# Altium schematic symbol library HotPlate_v1.0.SCHLIB: 31 symbols
Pins are listed as number, name and electrical type; pins without a type are passive.

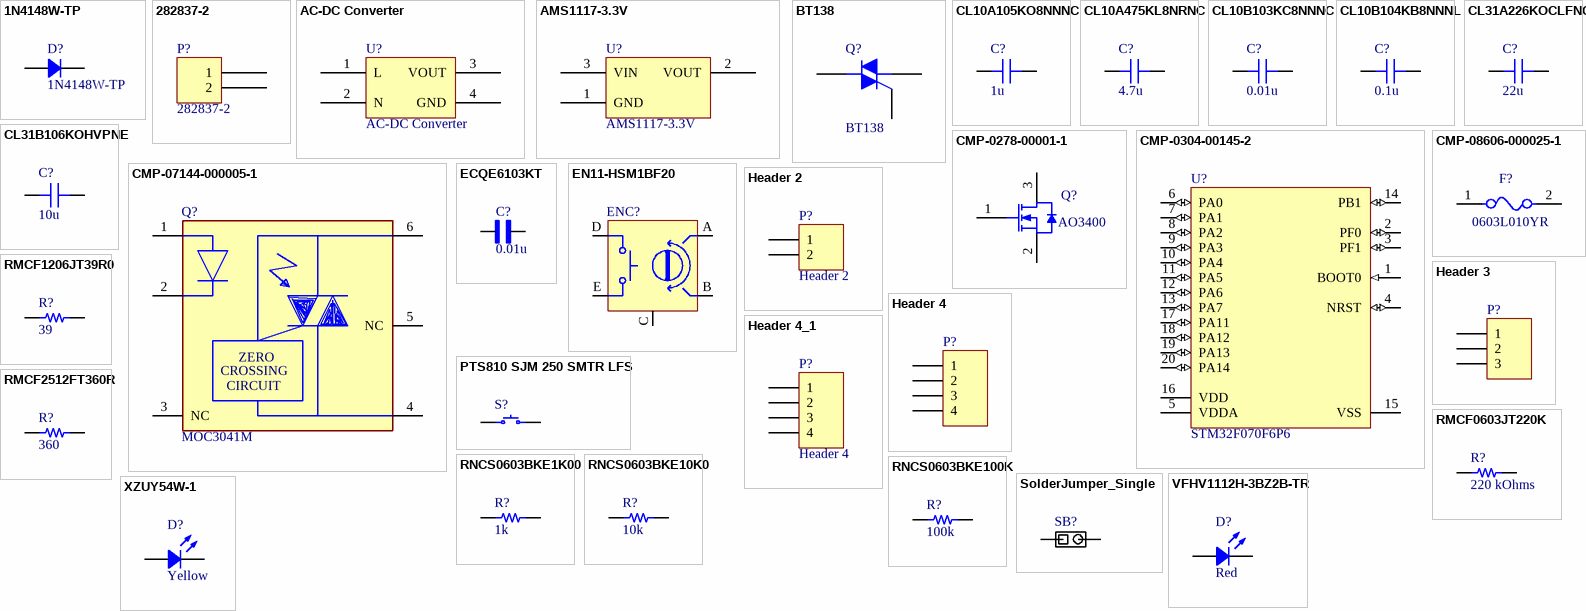
[diagram p0: symbols 1N4148W-TP to XZUY54W-1]

## 1N4148W-TP
designator D?
DIODE GEN PURP 100V 150MA SOD123; Manufacturer: Micro Commercial Co; Capacitance @ Vr, F: 2pF @ 0V, 1MHz; Current - Reverse Leakage @ Vr: 1 µA @ 75 V; Diode Type: Standard; Reverse Recovery Time (trr): 4 ns; Speed: Small Signal =< 200mA (Io), Any Speed; Voltage - Forward (Vf) (Max) @ If: 1.25 V @ 150 mA; Part Number: 1N4148W-TP; ComponentLink1Description: Datasheet; ComponentLink1URL: https://www.mccsemi.com/pdf/Products/1N4148W(SOD123).pdf; ComponentLink2Description: DigiKey Link; ComponentLink2URL: https://www.digikey.com/en/products/detail/micro-commercial-co/1N4148W-TP/717196; Current - Average Rectified (Io): 150mA; LastUpdated: 6/3/2024 7:54:46 PM; Lifecycle Status: Active; Minimum Order: 1; Mounting Type: Surface Mount; Operating Temperature - Junction: -65°C ~ 150°C; Package / Case: SOD-123; Packaging: TapeAndReel; PartId: 999; Part Status: Active; Price: 0.01; Series: -; Supplier 1: DigiKey; Supplier Part Number 1: 1N4148WTPMSCT-ND; Supplier Device Package: SOD-123; Voltage - DC Reverse (Vr) (Max): 100 V
footprint SOD-123
pins: 1, 2

## 282837-2
designator P?
TERM BLK 2P SIDE ENT 5.08MM PCB; Manufacturer: TE Connectivity AMP Connectors; Current: 13.5 A; Mating Orientation: Horizontal with Board; Number of Levels: 1; Pitch: 0.200" (5.08mm); Positions Per Level: 2; Voltage: 300 V; Wire Gauge: 16-28 AWG; Wire Termination: Screw - Rising Cage Clamp; Part Number: 282837-2; Color: Green; ComponentLink1Description: Datasheet; ComponentLink1URL: https://www.te.com/commerce/DocumentDelivery/DDEController?Action=srchrtrv&DocNm=282837&DocType=Customer+Drawing&DocLang=English; ComponentLink2Description: DigiKey Link; ComponentLink2URL: https://www.digikey.com/en/products/detail/te-connectivity-amp-connectors/282837-2/2187973; Features: Interlocking (Side); LastUpdated: 6/21/2022 3:00:23 PM; Lifecycle Status: Active; Minimum Order: 1; Mounting Type: Through Hole; Packaging: Tray; Part Status: Active; Price: 0.31; Series: Buchanan; Supplier 1: DigiKey; Supplier Part Number 1: A113320-ND
footprint TE 282837-2
pins: 1, 2

## AC-DC Converter
designator U?
VOUT: +5V; Max current: 700mA; ComponentLink1Description: Shopee; ComponentLink1URL: https://shopee.vn/Meishao-AC-sang-DC-5V-700mA-12V-300mA-3.5W-C%C3%B4ng-t%E1%BA%AFc-c%C3%A1ch-ly-B%E1%BB%99-ngu%E1%BB%93n-Mini-Buck-B%E1%BB%99-chuy%E1%BB%83n-%C4%91%E1%BB%95i-b%C6%B0%E1%BB%9Bc-xu%E1%BB%91ng-M%C3%B4-%C4%91un-AC-220V-sang-DC-5V-12V-%C4%90%E1%BA%B9p-i.1032539109.28704742020?xptdk=a6663772-2921-4425-8d30-5195574a3cb2
footprint AC-DC Converter
pins: 1 L, 2 N, 3 VOUT, 4 GND

## AMS1117-3.3V
designator U?
IC LDO REGULATOR 3.3V 1A SOT223; ComponentLink1Description: Datasheet; ComponentLink1URL: http://ams-semitech.com/attachments/File/AMS1117_20120314.pdf; Output voltage: 3.3V; Part Number: AMS1117-3.3V
footprint SOT-223
pins: 1 GND, 2 VOUT, 3 VIN

## BT138
designator Q?
Silicon Bidirectional Triode Thyristor; ASiD Part Number: BT138-AS
footprint My_TO220
footprint MY_TO220V_heatsink
pins: 1 M1, 2 M2, 3 G

## CL10A105KO8NNNC
designator C?, comment 1u
CAP CER 1UF 16V X5R 0603; Part Number: CL10A105KO8NNNC; manufacturer: Samsung Electro-Mechanics; Value: 1 µF; Tolerance: ±10%; Applications: General Purpose; Capacitance: 1 µF; componentlink1description: Datasheet; componentlink1url: http://www.samsungsem.com/kr/support/product-search/mlcc/CL10A105KO8NNNC.jsp; componentlink2description: DigiKey Link; componentlink2url: https://www.digikey.com/en/products/detail/samsung-electro-mechanics/CL10A105KO8NNNC/3886692; Device Package: 0603 (1608 Metric); lastupdated: 2/9/2024 8:10:26 PM; Lifecycle Status: Active; Minimum Order: 1; Mounting Type: Surface Mount, MLCC; Operating Temperature: -55°C ~ 85°C; Package / Case: 0603 (1608 Metric); packaging: TapeAndReel; partid: 5514; Part Status: Active; price: 0.01; series: CL; Size / Dimension: 0.063" L x 0.031" W (1.60mm x 0.80mm); Supplier 1: DigiKey; Supplier Part Number 1: 1276-1034-1-ND; Temperature Coefficient: X5R; Thickness (Max): 0.035" (0.90mm); Voltage - Rated: 16V
footprint CAP 0603_1608
pins: 1, 2

## CL10A475KL8NRNC
designator C?, comment 4.7u
CAP CER 4.7UF 35V X5R 0603; Part Number: CL10A475KL8NRNC; manufacturer: Samsung Electro-Mechanics; Value: 4.7 µF; Tolerance: ±10%; Applications: General Purpose; Capacitance: 4.7 µF; componentlink1description: Datasheet; componentlink1url: http://www.samsungsem.com/kr/support/product-search/mlcc/CL10A475KL8NRNC.jsp; componentlink2description: DigiKey Link; componentlink2url: https://www.digikey.com/en/products/detail/samsung-electro-mechanics/CL10A475KL8NRNC/5961278; Device Package: 0603 (1608 Metric); lastupdated: 2/9/2024 8:10:30 PM; Lifecycle Status: Active; Minimum Order: 1; Mounting Type: Surface Mount, MLCC; Operating Temperature: -55°C ~ 85°C; Package / Case: 0603 (1608 Metric); packaging: TapeAndReel; partid: 2652; Part Status: Active; price: 0.08; series: CL; Size / Dimension: 0.063" L x 0.031" W (1.60mm x 0.80mm); Supplier 1: DigiKey; Supplier Part Number 1: 1276-6794-1-ND; Temperature Coefficient: X5R; Thickness (Max): 0.035" (0.90mm); Voltage - Rated: 35V
footprint CAP 0603_1608
pins: 1, 2

## CL10B103KC8NNNC
designator C?, comment 0.01u
CAP CER 10000PF 100V X7R 0603; Part Number: CL10B103KC8NNNC; manufacturer: Samsung Electro-Mechanics; Tolerance: ±10%; Value: 10000 pF; Applications: General Purpose; Capacitance: 10000 pF; componentlink1description: Datasheet; componentlink1url: http://www.samsungsem.com/kr/support/product-search/mlcc/CL10B103KC8NNNC.jsp; componentlink2description: DigiKey Link; componentlink2url: https://www.digikey.com/en/products/detail/samsung-electro-mechanics/CL10B103KC8NNNC/3886854; Device Package: 0603 (1608 Metric); lastupdated: 2/9/2024 8:10:26 PM; Lifecycle Status: Active; Minimum Order: 1; Mounting Type: Surface Mount, MLCC; Operating Temperature: -55°C ~ 125°C; Package / Case: 0603 (1608 Metric); packaging: TapeAndReel; partid: 5732; Part Status: Active; price: 0.01; series: CL; Size / Dimension: 0.063" L x 0.031" W (1.60mm x 0.80mm); Supplier 1: DigiKey; Supplier Part Number 1: 1276-1196-1-ND; Temperature Coefficient: X7R; Thickness (Max): 0.035" (0.90mm); Voltage - Rated: 100V
footprint CAP 0603_1608
pins: 1, 2

## CL10B104KB8NNNL
designator C?, comment 0.1u
CAP CER 0.1UF 50V X7R 0603; Part Number: CL10B104KB8NNNL; manufacturer: Samsung Electro-Mechanics; Value: 0.1 µF; Tolerance: ±10%; Applications: General Purpose; Capacitance: 0.1 µF; componentlink1description: Datasheet; componentlink1url: http://www.samsungsem.com/kr/support/product-search/mlcc/CL10B104KB8NNNL.jsp; componentlink2description: DigiKey Link; componentlink2url: https://www.digikey.com/en/products/detail/samsung-electro-mechanics/CL10B104KB8NNNL/3894274; Device Package: 0603 (1608 Metric); lastupdated: 2/9/2024 8:10:29 PM; Lifecycle Status: Active; Minimum Order: 1; Mounting Type: Surface Mount, MLCC; Operating Temperature: -55°C ~ 125°C; Package / Case: 0603 (1608 Metric); packaging: TapeAndReel; partid: 3517; Part Status: Active; price: 0.01; series: CL; Size / Dimension: 0.063" L x 0.031" W (1.60mm x 0.80mm); Supplier 1: DigiKey; Supplier Part Number 1: 1276-CL10B104KB8NNNLCT-ND; Temperature Coefficient: X7R; Thickness (Max): 0.035" (0.90mm); Voltage - Rated: 50V
footprint CAP 0603_1608
pins: 1, 2

## CL31A226KOCLFNC
designator C?, comment 22u
CAP CER 22UF 16V X5R 1206; Part Number: CL31A226KOCLFNC; manufacturer: Samsung Electro-Mechanics; Value: 22 µF; Tolerance: ±10%; Applications: General Purpose; Capacitance: 22 µF; componentlink1description: Datasheet; componentlink1url: http://www.samsungsem.com/kr/support/product-search/mlcc/CL31A226KOCLFNC.jsp; componentlink2description: DigiKey Link; componentlink2url: https://www.digikey.com/en/products/detail/samsung-electro-mechanics/CL31A226KOCLFNC/3888383; Device Package: 1206 (3216 Metric); lastupdated: 6/4/2024 7:10:41 PM; Lifecycle Status: Active; Minimum Order: 1; Mounting Type: Surface Mount, MLCC; Operating Temperature: -55°C ~ 85°C; Package / Case: 1206 (3216 Metric); packaging: TapeAndReel; partid: 18940; Part Status: Active; price: 0.09; series: CL; Size / Dimension: 0.126" L x 0.063" W (3.20mm x 1.60mm); Supplier 1: DigiKey; Supplier Part Number 1: 1276-2725-1-ND; Temperature Coefficient: X5R; Thickness (Max): 0.037" (0.95mm); Voltage - Rated: 16V
footprint CAP 1206_3216 - 0.8MM
pins: 1, 2

## CL31B106KOHVPNE
designator C?, comment 10u
CAP CER 10UF 16V X7R 1206; Part Number: CL31B106KOHVPNE; manufacturer: Samsung Electro-Mechanics; Value: 10 µF; Tolerance: ±10%; Applications: Automotive; Capacitance: 10 µF; componentlink1description: Datasheet; componentlink1url: http://www.samsungsem.com/kr/support/product-search/mlcc/CL31B106KOHVPNE.jsp; componentlink2description: DigiKey Link; componentlink2url: https://www.digikey.com/en/products/detail/samsung-electro-mechanics/CL31B106KOHVPNE/5961281; Device Package: 1206 (3216 Metric); lastupdated: 6/4/2024 7:10:40 PM; Lifecycle Status: Active; Minimum Order: 1; Mounting Type: Surface Mount, MLCC; Operating Temperature: -55°C ~ 125°C; Package / Case: 1206 (3216 Metric); packaging: TapeAndReel; partid: 20135; Part Status: Active; price: 0.06; Ratings: AEC-Q200; series: CL; Size / Dimension: 0.126" L x 0.063" W (3.20mm x 1.60mm); Supplier 1: DigiKey; Supplier Part Number 1: 1276-6797-1-ND; Temperature Coefficient: X7R; Thickness (Max): 0.071" (1.80mm); Voltage - Rated: 16V
footprint CAP 1206_3216 - 0.8MM
pins: 1, 2

## CMP-0278-00001-1
designator Q?, comment AO3400
N-channel Enhancement Mode Field-Effect Transistor; 5.8A/30V; Manufacturer: Alpha and Omega; Manufacturer: Alpha & Omega Semiconductor; Channel Type: N; Drain-Source Voltage Limit: 30 V; Junction Temperature: -55 to 150 degC; Gate-Source Voltage Limit: +/-12 V; PackageDescription: 3-Pin SOT23, 3.016 x 2.8 mm Body, 0.95 mm Pitch; ComponentLink2Description: Datasheet; DatasheetVersion: Rev.8, 12/2011; ComponentLink3URL: http://www.aosmd.com/res/packaging_information/SOT-23.pdf; Storage Temperature: -55 to 150 degC; ComponentLink3Description: Package Specification; PackageReference: SOT23; ComponentLink1Description: Manufacturer URL; Mounting Technology: Surface Mount; ComponentLink1URL: http://www.aosmd.com/; PartNumber: AO3400; ComponentLink2URL: http://www.aosmd.com/res/data_sheets/AO3400.pdf; Manufacturer Part Number: AO3400
footprint AO-SOT23-3_V (SOT23, 3-Leads, Body 3.016x2.8mm, Pitch 0.95mm)
pins: 1 G, 2 S, 3 D

## CMP-0304-00145-2
designator U?, comment STM32F070F6P6
ARM Cortex-M0 32-bit MCU, 32 KB Flash, 6 KB Internal RAM, 15 I/Os, 20-Pin TSSOP, -40 to 85 degC, Tray; Manufacturer: STMicroelectronics; FLASH Size (Prog) (kB): 32; Internal RAM Size (kB): 6; Operating Frequency(F) (Processor speed) (MHz): 48; Supply Voltage(Vcc) min (V): 2.4; I/Os (High Current): 15; ComponentLink2URL: http://www.st.com/st-web-ui/static/active/en/resource/technical/document/datasheet/DM00141386.pdf; ComponentLink2Description: Datasheet; Packing: Tray; DatasheetVersion: Rev. 3; PartNumber: STM32F070F6P6; Core: ARM Cortex-M0; Package Reference: TSSOP20; Package Description: 20-Pin Thin Shrink Small Outline Package, Body 6.5 x 4.4 mm, Pitch 0.65 mm; ComponentLink1Description: Manufacturer URL; ComponentLink1URL: http://www.st.com/; Mounting Technology: Surface Mount; Manufacturer Part Number: STM32F070F6P6
footprint STM-TSSOP20_M (SOP, 20-Leads, Body 6.6x4.5mm, Pitch 0.65mm, IPC Low Density)
footprint STM-TSSOP20_N (SOP, 20-Leads, Body 6.6x4.5mm, Pitch 0.65mm, IPC Medium Density)
footprint STM-TSSOP20_L (SOP, 20-Leads, Body 6.6x4.5mm, Pitch 0.65mm, IPC High Density)
pins: 1 BOOT0 (in) "Boot memory selection", 2 PF0 (io) "PF0/I2C1_SDA/OSC_IN", 3 PF1 (io) "PF1/I2C1_SCL/OSC_OUT", 4 NRST (io) "Device reset input/internal reset output(active low)", 5 VDDA (power) "Analog power supply", 6 PA0 (io) "PA0/USART2_CTS,USART4_TX/RTC_ TAMP2,WKUP1,ADC_IN0", 7 PA1 (io) "PA1/USART2_RTS,USART4_RX,EVENTOUT/ADC_IN1", 8 PA2 (io) "PA2/USART2_TX/ADC_IN2", 9 PA3 (io) "PA3/USART2_RX/ADC_IN3", 10 PA4 (io) "PA4/SPI1_NSS,TIM14_CH1,USART2_CK,USB_NOE/ADC_IN4", 11 PA5 (io) "PA5/SPI1_SCK/ADC_IN5", 12 PA6 (io) "PA6/SPI1_MISO,TIM3_CH1,TIM1_BKIN,TIM16_CH1,EVENTOUT,USART3_CTS/ADC_IN6", 13 PA7 (io) "PA7/SPI1_MOSI,TIM3_CH2,TIM14_CH1,TIM1_CH1N,TIM17_CH1,EVENTOUT/ADC_IN7", 14 PB1 (io) "PB1/TIM3_CH4,TIM14_CH1,TIM1_CH3N/ADC_IN9", 15 VSS (power) "Ground", 16 VDD (power) "Digital power supply", 17 PA11 (io) "PA11/USART1_CTS,TIM1_CH4,EVENTOUT/USB_DM", 18 PA12 (io) "PA12/USART1_RTS,TIM1_ETR, EVENTOUT/USB_DP", 19 PA13 (io) "PA13/IR_OUT,SWDIO,USB_NOE", 20 PA14 (io) "PA14/USART2_TX,SWCLK"

## CMP-07144-000005-1
designator Q?, comment MOC3041M
OPTOISOLATOR 4.17KV TRIAC 6DIP; Manufacturer: ON Semiconductor; Manufacturer: ON Semiconductor / Fairchild; Forward Voltage: 1.25V; Power Dissipation: 250mW; Forward Current: 30mA; Reverse Voltage: 6V; Max Junction Temp: +100°C; Isolation Voltage: 4170Vrms; Standoff Height: 0.38mm; Octopart: https://octopart.com/moc3041m-on+semiconductor-84330395; Temperature Range Low: -40°C; Category: Trans; Package: 646BX; Height: 5.08mm; Manufacturer Part Number: MOC3041M; ComponentLink2Description: Datasheet; Device Class L2: Optocouplers; Device Class L1: Optoelectronics; Device Class L3: unset; Automotive: No; RoHS: TRUE; Mouser Description: Optocoupler Triac AC Output 1 Channel 400VDRM 6-Pin Plastic Dip White Bulk; Temperature: -40°C to +85°C; Lead Free: Yes; ComponentLink2URL: https://www.onsemi.com/pub/Collateral/MOC3043M-D.pdf; Digikey Description: OPTOISOLATOR 4.17KV TRIAC 6DIP; Temperature Range High: +85°C; Footprint Url: https://www.onsemi.com/pub/Collateral/646BX.PDF
footprint FP-646BX-MFG
pins: 1 A, 2 C, 3 NC, 4 1 MAIN TERM., 5 NC, 6 2 MAIN TERM.
text: ZERO; CROSSING; CIRCUIT

## CMP-08606-000025-1
designator F?, comment 0603L010YR
PTC RESET FUSE 15V 100MA 0603; Manufacturer: Littelfuse Inc; Manufacturer: Littelfuse; Value: 0.9-6Ω; Trip Time: 1s; Current Rating: 40A; Trip Current: 0.3A; Hold Current: 0.1A; Octopart: https://octopart.com/0603l010yr-littelfuse-8316166; ComponentLink2URL: https://www.littelfuse.com/~/media/electronics/datasheets/resettable_ptcs/littelfuse_ptc_0603l_datasheet.pdf.pdf; Package: 0603L; Category: Fuse; Mouser Description: Resettable Fuses - PPTC PTC 15V 0603 .100A POLY SURF MOUNT; Automotive: No; Resistance: 0.9-6Ω; Device Class L3: unset; Digikey Description: PTC RESET FUSE 15V 100MA 0603; Lead Free: Yes; Temperature: -40°C to +85°C; Ambient Temperature Range High: +85°C; ComponentLink2Description: Datasheet; RoHS: TRUE; Height: 0.75mm; Temperature Range Low: -40°C; Manufacturer Part Number: 0603L010YR; Device Class L2: PTC Resettable Fuses; Device Class L1: Circuit Protection; Temperature Range High: +85°C; Ambient Temperature Range Low: -40°C; Voltage Rating: 15V
footprint FP-0603L-MFG
pins: 1, 2

## ECQE6103KT
designator C?, comment 0.01u
ECQE6103KT; MF: {'manufacturer': u'Panasonic'}; Package: None; Price: None; Value: *; MP: ECQE6103KT; Availability: Unavailable
footprint CAPRR1000W60L1250T450H750
pins: 1, 2

## EN11-HSM1BF20
designator ENC?  (value not drawn)
Rotary Encoder with Switch 20 Detents 7mm Bushing 20mm Threaded Shaft Vertical; Manufacturer: TT Electronics; Manufacturer Part Number: EN11-HSM1BF20; Distributor Link: https://www.mouser.de/ProductDetail/BI-Technologies-TT-Electronics/EN11-HSM1BF20?qs=%252BUYXD5bnyXp4Uf1MU7v3zw%3D%3D
footprint EN11-HSM
pins: A (io), B (io), C GND (power), D, E

## Header 2
designator P?
Header, 2-Pin; LatestRevisionDate: 17-Jul-2002; LatestRevisionNote: Re-released for DXP Platform.; Publisher: Altium Limited
footprint HDR1X2 (Connector; Header; 2 Position)
signal-integrity model Connector
pins: 1, 2

## Header 3
designator P?  (value not drawn)
Header, 3-Pin; ASiD Part Number: Header 3-AS
footprint My_1X03
signal-integrity model Connector
footprint My_CN3
footprint MY_MSTBA3
footprint MY_6410-03
footprint MY_7395-03
footprint MY_FE03
footprint MY_FE03W
footprint MY_MA03-1W
pins: 1, 2, 3

## Header 4
designator P?  (value not drawn)
Header, 4-Pin; ASiD Part Number: Header 4-AS
footprint My_1X04
signal-integrity model Connector
footprint MY_MSTBA4
footprint MY_FPC4_1mm
footprint MY_6410-04
footprint MY_7395-04
footprint MY_FE04
footprint MY_FE04W
footprint MY_MA04-1W
pins: 1, 2, 3, 4

## Header 4_1
designator P?, comment Header 4
Header, 4-Pin; LatestRevisionDate: 17-Jul-2002; LatestRevisionNote: Re-released for DXP Platform.; Publisher: Altium Limited
footprint HDR1X4 (Connector; Header; 4 Position)
signal-integrity model Connector
pins: 1, 2, 3, 4

## PTS810 SJM 250 SMTR LFS
designator S?  (value not drawn)
SWITCH TACTILE SPST-NO 0.05A 16V; Manufacturer: C&K; Actuator Height off PCB, Vertical: 2.50mm; Actuator Orientation: Top Actuated; Actuator Type: Oval Button; Contact Rating @ Voltage: 0.05A @ 16VDC; Illumination: Non-Illuminated; Operating Force: 160gf; Outline: 4.20mm x 3.20mm; Switch Function: Off-Mom; Part Number: PTS810 SJM 250 SMTR LFS; Circuit: SPST-NO; ComponentLink1Description: Datasheet; ComponentLink1URL: https://dznh3ojzb2azq.cloudfront.net/products/Tactile/PTS810/documents/datasheet.pdf; ComponentLink2Description: DigiKey Link; ComponentLink2URL: http://digikey.com/product-detail/en/c-k/PTS810-SJM-250-SMTR-LFS/CKN10502CT-ND/4176673; LastUpdated: 4/9/2020 10:00:13 AM; Lifecycle Status: Active; Minimum Order: 1; Mounting Type: Surface Mount; Operating Temperature: -40°C ~ 85°C; Packaging: TapeAndReel; Part Status: Active; Price: 0.16; Series: PTS810; Supplier 1: DigiKey; Supplier Part Number 1: CKN10502CT-ND; Termination Style: J Lead
footprint C&K PTS810
pins: 1, 2, 3, 4

## RMCF0603JT220K
designator R?, comment 220 kOhms
RES 220K OHM 5% 1/10W 0603; Part Number: RMCF0603JT220K; Manufacturer: Stackpole Electronics Inc; Power (Watts): 0.1W, 1/10W; Temperature Coefficient: ±200ppm/°C; Value: 220 kOhms; ComponentLink1Description: Datasheet; ComponentLink1URL: https://www.seielect.com/catalog/sei-rmcf_rmcp.pdf; ComponentLink2Description: DigiKey Link; ComponentLink2URL: https://www.digikey.com/en/products/detail/stackpole-electronics-inc/RMCF0603JT220K/1758071; Composition: Thick Film; Device Package: 0603 (1608 Metric); Features: Automotive AEC-Q200; Height - Seated (Max): 0.022" (0.55mm); LastUpdated: 2/9/2024 8:43:33 PM; Lifecycle Status: Active; Minimum Order: 1; Number of Terminations: 2; Operating Temperature: -55°C ~ 155°C; Package / Case: 0603 (1608 Metric); Packaging: CutTape; PartId: 5861; Part Status: Active; Price: 0.01; Ratings: AEC-Q200; Resistance: 220 kOhms; Series: RMCF; Size / Dimension: 0.061" L x 0.031" W (1.55mm x 0.80mm); Supplier 1: DigiKey; Supplier Part Number 1: RMCF0603JT220KCT-ND; Supplier Device Package: 0603; Tolerance: ±5%
footprint RES 0603_1608
pins: 1, 2

## RMCF1206JT39R0
designator R?, comment 39
RES 39 OHM 5% 1/4W 1206; Part Number: RMCF1206JT39R0; Manufacturer: Stackpole Electronics Inc; Power (Watts): 0.25W, 1/4W; Resistance: 39 Ohms; Temperature Coefficient: ±200ppm/°C; Value: 39 Ohms; ComponentLink1Description: Datasheet; ComponentLink1URL: https://www.seielect.com/catalog/sei-rmcf_rmcp.pdf; ComponentLink2Description: DigiKey Link; ComponentLink2URL: https://www.digikey.com/en/products/detail/stackpole-electronics-inc/RMCF1206JT39R0/1753828; Composition: Thick Film; Device Package: 1206 (3216 Metric); Features: Automotive AEC-Q200; Height - Seated (Max): 0.028" (0.70mm); LastUpdated: 2/9/2024 8:54:36 PM; Lifecycle Status: Active; Minimum Order: 1; Number of Terminations: 2; Operating Temperature: -55°C ~ 155°C; Package / Case: 1206 (3216 Metric); Packaging: CutTape; PartId: 28850; Part Status: Active; Price: 0.01; Ratings: AEC-Q200; Series: RMCF; Size / Dimension: 0.126" L x 0.063" W (3.20mm x 1.60mm); Supplier 1: DigiKey; Supplier Part Number 1: RMCF1206JT39R0CT-ND; Supplier Device Package: 1206; Tolerance: ±5%
footprint RES 1206_3216
pins: 1, 2

## RMCF2512FT360R
designator R?, comment 360
RES 360 OHM 1% 1W 2512; Part Number: RMCF2512FT360R; manufacturer: Stackpole Electronics Inc; Resistance: 360 Ohms; Temperature Coefficient: ±100ppm/°C; value: 360 Ohms; componentlink1description: Datasheet; componentlink1url: https://www.seielect.com/catalog/sei-rmcf_rmcp.pdf; componentlink2description: DigiKey Link; componentlink2url: http://digikey.com/product-detail/en/stackpole-electronics-inc/RMCF2512FT360R/RMCF2512FT360RCT-ND/7907116; Composition: Thick Film; Device Package: 2512 (6432 Metric); Features: Automotive AEC-Q200; Height - Seated (Max): 0.028" (0.70mm); lastupdated: 9/2/2020 1:26:55 AM; Lifecycle Status: Active; Minimum Order: 1; Number of Terminations: 2; Operating Temperature: -55°C ~ 155°C; Package / Case: 2512 (6432 Metric); packaging: TapeAndReel; Part Status: Active; Power (Watts): 1W; price: 0.04; Ratings: AEC-Q200; series: RMCF; Size / Dimension: 0.248" L x 0.126" W (6.30mm x 3.20mm); Supplier 1: DigiKey; Supplier Part Number 1: RMCF2512FT360RCT-ND; Supplier Device Package: 2512; Tolerance: ±1%
footprint RES 2512_6432
pins: 1, 2

## RNCS0603BKE1K00
designator R?, comment 1k
RES 1K OHM 0.1% 1/16W 0603; Part Number: RNCS0603BKE1K00; Manufacturer: Stackpole Electronics Inc; Value: 1 kOhms; Power (Watts): 0.063W, 1/16W; Temperature Coefficient: ±25ppm/°C; ComponentLink1Description: Datasheet; ComponentLink1URL: https://www.seielect.com/catalog/sei-rncs_rnch.pdf; ComponentLink2Description: DigiKey Link; ComponentLink2URL: https://www.digikey.com/en/products/detail/stackpole-electronics-inc/RNCS0603BKE1K00/1708845; Composition: Thin Film; Device Package: 0603 (1608 Metric); Features: Anti-Corrosive, Automotive AEC-Q200, Moisture Resistant; Height - Seated (Max): 0.022" (0.55mm); LastUpdated: 2/9/2024 8:42:50 PM; Lifecycle Status: Active; Minimum Order: 1; Number of Terminations: 2; Operating Temperature: -55°C ~ 155°C; Package / Case: 0603 (1608 Metric); Packaging: TapeAndReel; PartId: 16793; Part Status: Active; Price: 0.06; Ratings: AEC-Q200; Resistance: 1 kOhms; Series: RNCS; Size / Dimension: 0.061" L x 0.031" W (1.55mm x 0.80mm); Supplier 1: DigiKey; Supplier Part Number 1: RNCS0603BKE1K00CT-ND; Supplier Device Package: 0603; Tolerance: ±0.1%
footprint RES 0603_1608
pins: 1, 2

## RNCS0603BKE10K0
designator R?, comment 10k
RES 10K OHM 0.1% 1/16W 0603; Part Number: RNCS0603BKE10K0; Manufacturer: Stackpole Electronics Inc; Value: 10 kOhms; Power (Watts): 0.063W, 1/16W; Temperature Coefficient: ±25ppm/°C; ComponentLink1Description: Datasheet; ComponentLink1URL: https://www.seielect.com/catalog/sei-rncs_rnch.pdf; ComponentLink2Description: DigiKey Link; ComponentLink2URL: https://www.digikey.com/en/products/detail/stackpole-electronics-inc/RNCS0603BKE10K0/1708836; Composition: Thin Film; Device Package: 0603 (1608 Metric); Features: Anti-Corrosive, Automotive AEC-Q200, Moisture Resistant; Height - Seated (Max): 0.022" (0.55mm); LastUpdated: 2/9/2024 8:43:37 PM; Lifecycle Status: Active; Minimum Order: 1; Number of Terminations: 2; Operating Temperature: -55°C ~ 155°C; Package / Case: 0603 (1608 Metric); Packaging: TapeAndReel; PartId: 4838; Part Status: Active; Price: 0.06; Ratings: AEC-Q200; Resistance: 10 kOhms; Series: RNCS; Size / Dimension: 0.061" L x 0.031" W (1.55mm x 0.80mm); Supplier 1: DigiKey; Supplier Part Number 1: RNCS0603BKE10K0CT-ND; Supplier Device Package: 0603; Tolerance: ±0.1%
footprint RES 0603_1608
pins: 1, 2

## RNCS0603BKE100K
designator R?, comment 100k
RES 100K OHM 0.1% 1/16W 0603; Part Number: RNCS0603BKE100K; Manufacturer: Stackpole Electronics Inc; Value: 100 kOhms; Power (Watts): 0.063W, 1/16W; Temperature Coefficient: ±25ppm/°C; ComponentLink1Description: Datasheet; ComponentLink1URL: https://www.seielect.com/catalog/sei-rncs_rnch.pdf; ComponentLink2Description: DigiKey Link; ComponentLink2URL: https://www.digikey.com/en/products/detail/stackpole-electronics-inc/RNCS0603BKE100K/1708835; Composition: Thin Film; Device Package: 0603 (1608 Metric); Features: Anti-Corrosive, Automotive AEC-Q200, Moisture Resistant; Height - Seated (Max): 0.022" (0.55mm); LastUpdated: 2/9/2024 8:43:37 PM; Lifecycle Status: Active; Minimum Order: 1; Number of Terminations: 2; Operating Temperature: -55°C ~ 155°C; Package / Case: 0603 (1608 Metric); Packaging: TapeAndReel; PartId: 4849; Part Status: Active; Price: 0.06; Ratings: AEC-Q200; Resistance: 100 kOhms; Series: RNCS; Size / Dimension: 0.061" L x 0.031" W (1.55mm x 0.80mm); Supplier 1: DigiKey; Supplier Part Number 1: RNCS0603BKE100KCT-ND; Supplier Device Package: 0603; Tolerance: ±0.1%
footprint RES 0603_1608
pins: 1, 2

## SolderJumper_Single
designator SB?, comment Solder Jumper  (value not drawn)
Solder Jumper Single 0.5mm Pitch
footprint SolderJumper_Single
pins: 1, 2

## VFHV1112H-3BZ2B-TR
designator D?, comment Red
LED; Part Number: VFHV1112H-3BZ2B-TR; Manufacturer: Stanley Electric Co; Configuration: Standard; Current - Test: 20mA; Lens Color: White; Lens Size: 1.30mm x 1.25mm; Lens Style: Rectangle with Flat Top; Millicandela Rating: 110mcd; Viewing Angle: 140°; Voltage - Forward (Vf) (Typ): 1.9V; Wavelength - Dominant: 615nm; Wavelength - Peak: 624nm; Color: Red; ComponentLink1Description: Datasheet; ComponentLink1URL: http://www.stanley-components.com/php/downloaddatafile.php?rp=0,VFHV1112H-3BZ2B-TR_e.pdf; ComponentLink2Description: DigiKey Link; ComponentLink2URL: http://digikey.com/product-detail/en/stanley-electric-co/VFHV1112H-3BZ2B-TR/404-1314-1-ND/9477319; Device Package: 0805 (2012 Metric); Height (Max): 0.90mm; LastUpdated: 6/3/2024 8:00:06 PM; Lifecycle Status: Active; Minimum Order: 1; Mounting Type: Surface Mount; Package / Case: 0805 (2012 Metric); Packaging: TapeAndReel; PartId: 359; Part Status: Active; Price: 0.08; Series: -; Size / Dimension: 2.00mm L x 1.25mm W; Supplier 1: DigiKey; Supplier Part Number 1: 404-1314-1-ND; Value: Red
footprint LED 0805_2012 RED
pins: 1, 2

## XZUY54W-1
designator D?, comment Yellow
LED YELLOW CLEAR CHIP SMD; Part Number: XZUY54W-1; Manufacturer: SunLED; Configuration: Standard; Current - Test: 20mA; Lens Color: Colorless; Lens Size: 1.20mm x 1.25mm; Lens Style: Rectangle with Flat Top; Millicandela Rating: 7mcd; Viewing Angle: 120°; Voltage - Forward (Vf) (Typ): 2.1V; Wavelength - Dominant: 588nm; Wavelength - Peak: 590nm; Color: Yellow; ComponentLink1Description: Datasheet; ComponentLink1URL: https://www.sunledusa.com/products/spec/XZUY54W-1.pdf; ComponentLink2Description: DigiKey Link; ComponentLink2URL: https://www.digikey.com/en/products/detail/sunled/XZUY54W-1/4745811; Device Package: 0805 (2012 Metric); Height (Max): 0.75mm; LastUpdated: 6/3/2024 8:01:27 PM; Lens Transparency: Clear; Lifecycle Status: Active; Minimum Order: 1; Mounting Type: Surface Mount; Package / Case: 0805 (2012 Metric); Packaging: TapeAndReel; PartId: 43; Part Status: Active; Price: 0.04; Series: -; Size / Dimension: 2.00mm L x 1.25mm W; Supplier 1: DigiKey; Supplier Part Number 1: 1497-1210-1-ND; Supplier Device Package: Chip LED; Value: Yellow
footprint LED 0805_2012 YELLOW
pins: 1, 2